# EAGLE library part A4988 (library RAMPS)
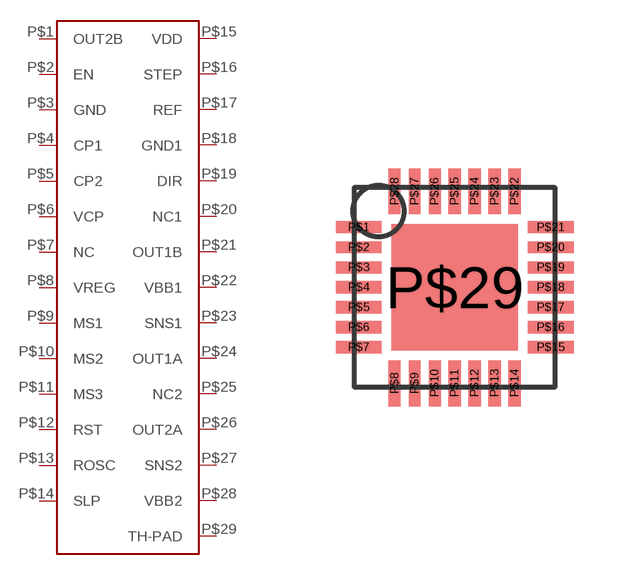
[diagram p7: symbol with the pads of QFN28-TP; footprint QFN28-TP]

Designator prefix -

## A4988  [QFN28-TP]
P$1  OUT2B  out
P$2  EN  in
P$3  GND  pwr
P$4  CP1  pas
P$5  CP2  pas
P$6  VCP  pas
P$7  NC  nc
P$8  VREG  pas
P$9  MS1  in
P$10  MS2  in
P$11  MS3  in
P$12  RST  in
P$13  ROSC  in
P$14  SLP  in
P$15  VDD  pwr
P$16  STEP  in
P$17  REF  in
P$18  GND1  pwr
P$19  DIR  in
P$20  NC1  nc
P$21  OUT1B  out
P$22  VBB1  pwr
P$23  SNS1  pas
P$24  OUT1A  out
P$25  NC2  nc
P$26  OUT2A  out
P$27  SNS2  pas
P$28  VBB2  pwr
P$29  TH-PAD  pwr

## Footprint QFN28-TP (pad centres in mm)
smd 1.15 x 0.3: P$1 -2.4,1.5; P$2 -2.4,1; P$3 -2.4,0.5; P$4 -2.4,0; P$5 -2.4,-0.5; P$6 -2.4,-1; P$7 -2.4,-1.5; P$15 2.4,-1.5; P$16 2.4,-1; P$17 2.4,-0.5; P$18 2.4,0; P$19 2.4,0.5; P$20 2.4,1; P$21 2.4,1.5
smd 0.3 x 1.15: P$8 -1.5,-2.4; P$9 -1,-2.4; P$10 -0.5,-2.4; P$11 0,-2.4; P$12 0.5,-2.4; P$13 1,-2.4; P$14 1.5,-2.4; P$22 1.5,2.4; P$23 1,2.4; P$24 0.5,2.4; P$25 0,2.4; P$26 -0.5,2.4; P$27 -1,2.4; P$28 -1.5,2.4
smd 3.15 x 3.15: P$29 0,0